# EAGLE library part ESC (library ESC)
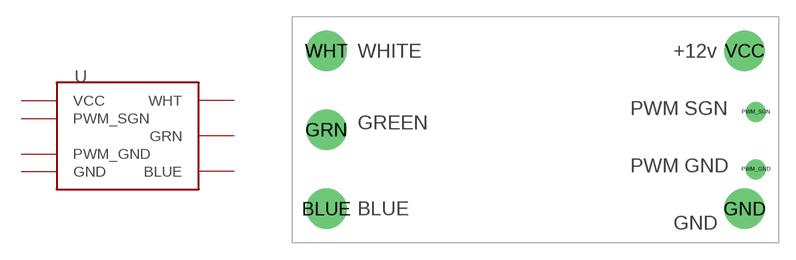
[diagram p0: symbol with the pads of ESC; footprint ESC]

Designator prefix -

## ESC  [ESC]
BLUE  WHT  out
GND  GND  pwr
GRN  GRN  out
PWM_GND  PWM_GND  pwr
PWM_SGN  PWM_SGN  in
VCC  VCC  pwr
WHT  BLUE  out

## Footprint ESC (pad centres in mm)
drill 2.2 pad 3.6: BLUE -18,-7; GRN -18,0; WHT -18,7
drill 2 pad 3.6: GND 19,-7; VCC 19,7
drill 1 pad 1.778: PWM_GND 20,-3.5; PWM_SGN 20,1.58